# EAGLE library part MIC2075 (library Traficon)
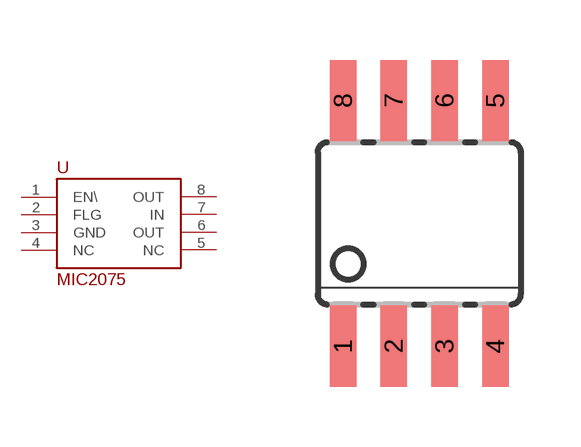
[diagram p181: symbol with the pads of SOIC08; footprint SOIC08]

Designator prefix U

## MIC2075  [SOIC08]
1  EN\
2  FLG
3  GND
4  NC
5  NC
6  OUT
7  IN
8  OUT

## Footprint SOIC08 (pad centres in mm)
Small Outline Package
smd 0.66 x 2.032: 1 -1.905,-3.073; 2 -0.635,-3.073; 3 0.635,-3.073; 4 1.905,-3.073; 5 1.905,3.073; 6 0.635,3.073; 7 -0.635,3.073; 8 -1.905,3.073